# EAGLE library part ADUM1250ARZ (library ADUM1250ARZ)
Hot Swappable, Dual I2C Isolators Check availability <https://pricing.snapeda.com/parts/ADUM1250ARZ/Analog%20Devices/view-part?ref=eda>
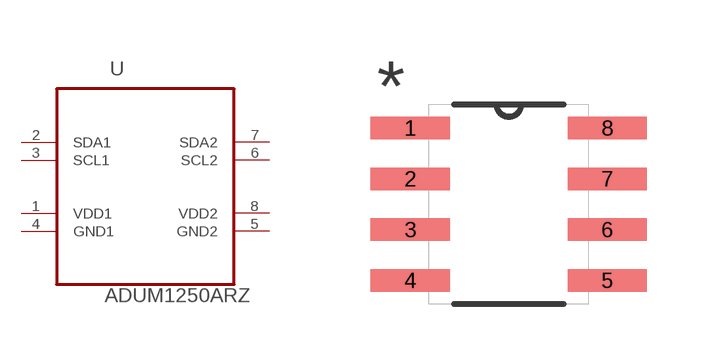
[diagram p0: symbol with the pads of SOIC127P600X175-8N; footprint SOIC127P600X175-8N]

Designator prefix U

## ADUM1250ARZ (Availability: In Stock; Check_prices: https://www.snapeda.com/parts/ADUM1250ARZ/Analog+Devices/view-part/?ref=eda; Description: Hot Swappable Dual I2C Isolator; MF: Analog Devices; MP: ADUM1250ARZ; Package: SOIC-8 Analog Devices; Price: None; SnapEDA_Link: https://www.snapeda.com/parts/ADUM1250ARZ/Analog+Devices/view-part/?ref=snap)  [SOIC127P600X175-8N]
1  VDD1  pwr
2  SDA1
3  SCL1  in
4  GND1  pas
5  GND2  pas
6  SCL2  in
7  SDA2
8  VDD2  pwr

## Footprint SOIC127P600X175-8N (pad centres in mm)
smd 1.981 x 0.559: 1 -2.464,1.905; 2 -2.464,0.635; 3 -2.464,-0.635; 4 -2.464,-1.905; 5 2.464,-1.905; 6 2.464,-0.635; 7 2.464,0.635; 8 2.464,1.905